# Altium schematic symbol library ESP32_SCH.SchLib: 50 symbols (part 2 of 2)
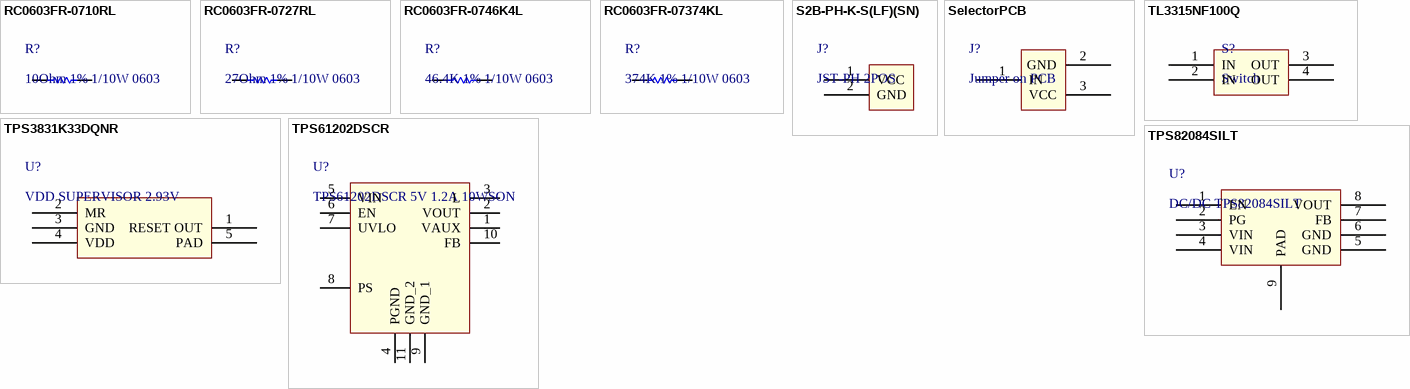
[diagram p2: symbols RC0603FR-0710RL to TPS82084SILT]

## TPS82084SILT
designator U?, comment DC/DC TPS82084SILT
DC DC CONVERTER 0.8-6V 2A; Manufacturer: Texas Instruments; Voltage - Input (Min): 2.5V; Voltage - Input (Max): 6V; Voltage - Output 1: 0.8 ~ 6 V; Supplier 1: Digi-Key; Manufacturer Part Number: TPS82084SILT; RoHS: RoHS Compliant; Category: Power Supplies - Board Mount; Stock 1: 60164; Pricing 1: 1=2.82, 10=2.538, 100=2.0797 (GBP); Packaging: Cut Tape (CT); Part Status: Active; Type: Non-Isolated PoL Module; Voltage - Output 2: -; Voltage - Output 3: -; Current - Output (Max): 2A; Applications: ITE (Commercial); Features: SCP, OTP, UVLO; Operating Temperature: -40°C ~ 125°C; Efficiency: -; Mounting Type: Surface Mount; Package / Case: 8-LDFN Exposed Pad, Module; Size / Dimension: 0.12" L x 0.11" W x 0.05" H (3.0mm x 2.8mm x 1.3mm); Supplier Device Package: 8-uSIP (3x2.8); ComponentLink1URL: http://www.ti.com/lit/ds/symlink/tps82084.pdf; ComponentLink1Description: http://www.ti.com/lit/ds/symlink/tps82084.pdf; Supplier Part Number 1: 296-42973-1-ND
footprint SIL0008C
pins: 1 EN, 2 PG, 3 VIN, 4 VIN, 5 GND, 6 GND, 7 FB, 8 VOUT, 9 PAD